# Altium footprint library Connector_PinSocket_1.00mm.PcbLib: 156 footprints (part 4 of 10)
Each footprint in its own frame and in the unit in brackets; x right, y up, seen from the top. Pads: shape width x height; smd on the part's side, far side on the other; paste and mask are expansions set on the pad; w line width, h text height; cw(c..) or ccw(c..) is an arc to the next point about the centre after c.
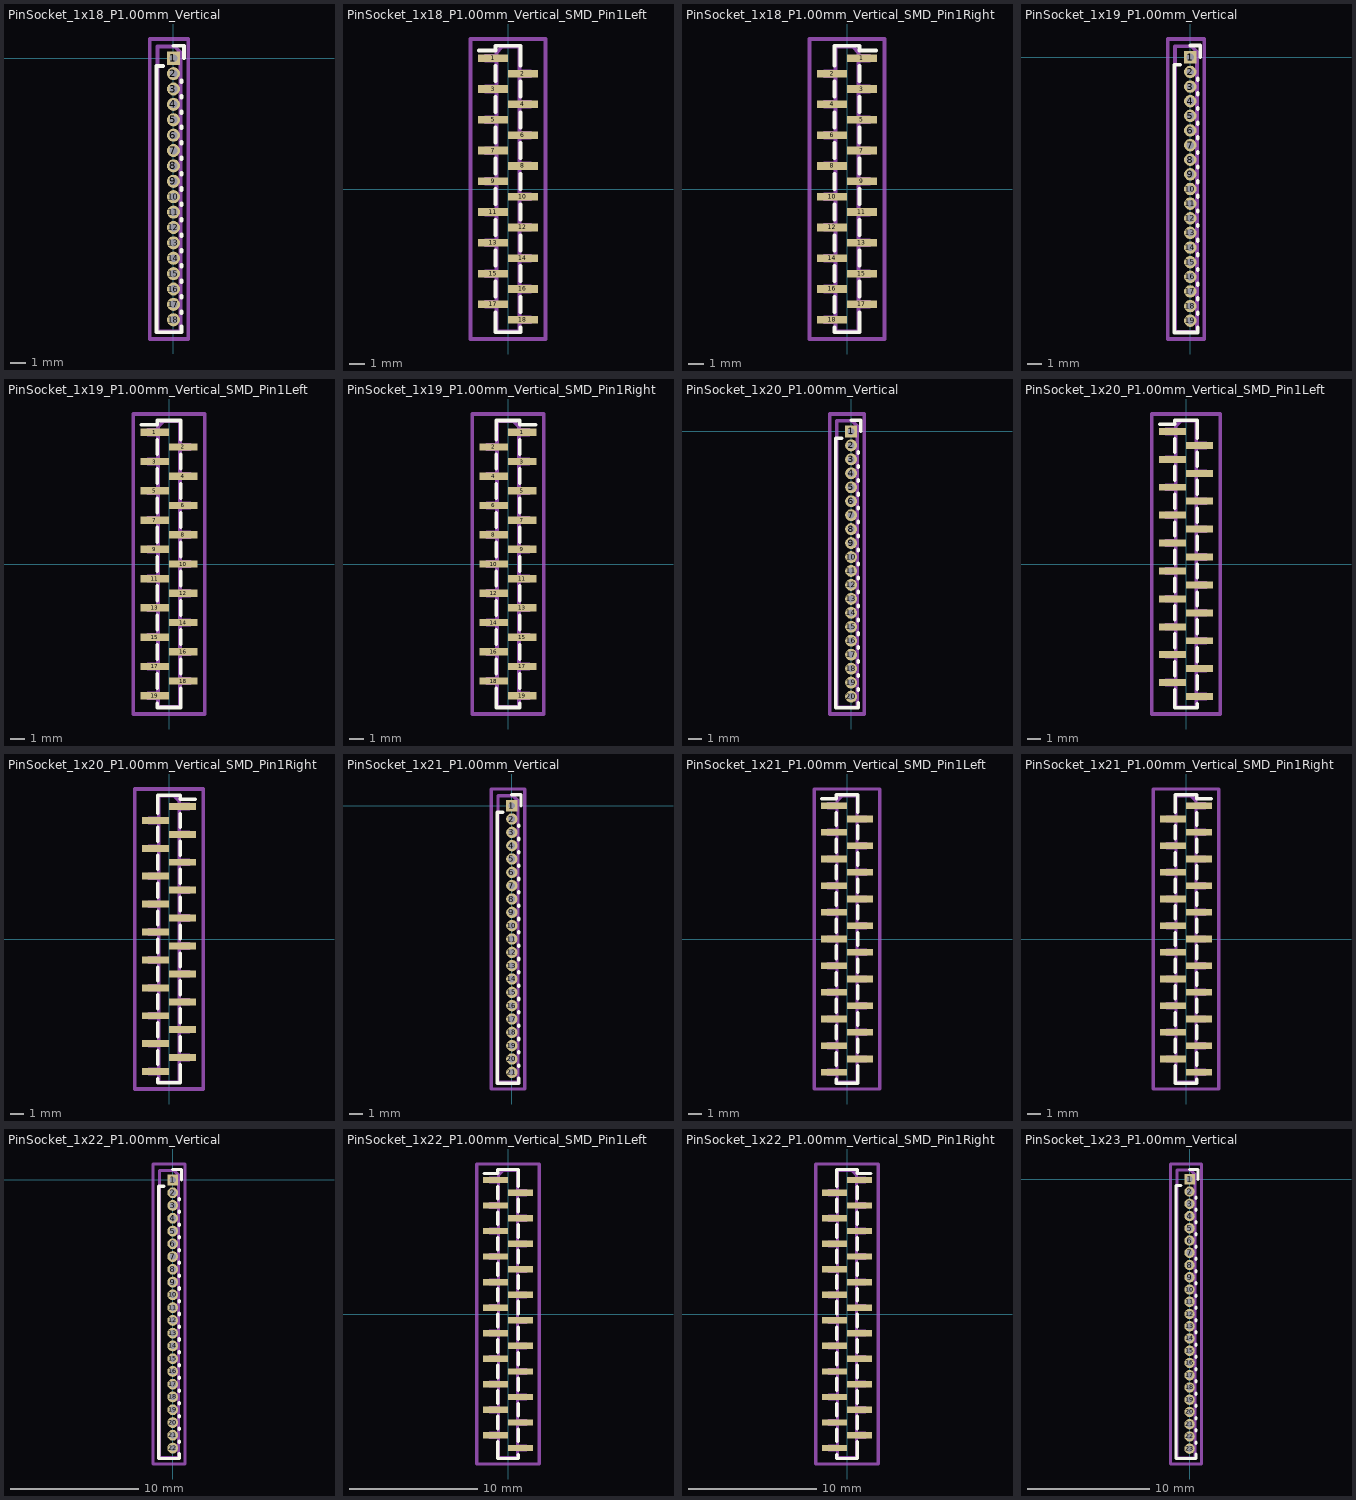
[diagram p3: the footprints below, top view; thin cyan lines are the x and y axes]

## PinSocket_1x18_P1.00mm_Vertical [mm]
pads (18):
  rect 0.85x0.85 hole 0.5: 1(0,0)
  round 0.85 hole 0.5: 2(0,-1) 3(0,-2) 4(0,-3) 5(0,-4) 6(0,-5) 7(0,-6) 8(0,-7) 9(0,-8) 10(0,-9) 11(0,-10) 12(0,-11) 13(0,-12) 14(0,-13) 15(0,-14) 16(0,-15) 17(0,-16) 18(0,-17)
F.SilkS:
  lines w0.254: -0.685,-0.5 -1.1,-0.5 -1.1,-17.81 0.52,-17.81 0.52,-17.446 ; 0,0.81 0.685,0.81 0.685,0 ; 0.52,-16.554 0.52,-16.446 ; 0.52,-15.554 0.52,-15.446 ; 0.52,-14.554 0.52,-14.446 ; 0.52,-13.554 0.52,-13.446 ; 0.52,-12.554 0.52,-12.446 ; 0.52,-11.554 0.52,-11.446 ; 0.52,-10.554 0.52,-10.446 ; 0.52,-9.554 0.52,-9.446 ; 0.52,-8.554 0.52,-8.446 ; 0.52,-7.554 0.52,-7.446 ; 0.52,-6.554 0.52,-6.446 ; 0.52,-5.554 0.52,-5.446 ; 0.52,-4.554 0.52,-4.446 ; 0.52,-3.554 0.52,-3.446 ; 0.52,-2.554 0.52,-2.446 ; 0.52,-1.554 0.52,-1.446
Top Assembly:
  lines w0.254: -1.04,-17.75 0.46,-17.75 0.46,0.375 0.085,0.75 -1.04,0.75 -1.04,-17.75
  text "'.Designator'" at 0.471,-12.147 h0.9
Top Courtyard:
  lines w0.254: -1.54,-18.25 0.96,-18.25 0.96,1.25 -1.54,1.25 -1.54,-18.25
Top Designator:
  text ".Designator" at -7.908,-9.008 h1.52

## PinSocket_1x18_P1.00mm_Vertical_SMD_Pin1Left [mm]
pads (18):
  rect 1.95x0.5 smd: 1(-0.975,8.5) 2(0.975,7.5) 3(-0.975,6.5) 4(0.975,5.5) 5(-0.975,4.5) 6(0.975,3.5) 7(-0.975,2.5) 8(0.975,1.5) 9(-0.975,0.5) 10(0.975,-0.5) 11(-0.975,-1.5) 12(0.975,-2.5) 13(-0.975,-3.5) 14(0.975,-4.5) 15(-0.975,-5.5) 16(0.975,-6.5) 17(-0.975,-7.5) 18(0.975,-8.5)
F.SilkS:
  lines w0.254: -1.89,9.01 -0.81,9.01 -0.81,9.31 0.81,9.31 0.81,8.01 ; -0.81,-8.01 -0.81,-9.31 0.81,-9.31 0.81,-9.01 ; -0.81,-6.99 -0.81,-6.01 ; -0.81,-4.99 -0.81,-4.01 ; -0.81,-2.99 -0.81,-2.01 ; -0.81,-0.99 -0.81,-0.01 ; -0.81,1.01 -0.81,1.99 ; -0.81,3.01 -0.81,3.99 ; -0.81,5.01 -0.81,5.99 ; -0.81,7.01 -0.81,7.99 ; 0.81,-7.99 0.81,-7.01 ; 0.81,-5.99 0.81,-5.01 ; 0.81,-3.99 0.81,-3.01 ; 0.81,-1.99 0.81,-1.01 ; 0.81,0.01 0.81,0.99 ; 0.81,2.01 0.81,2.99 ; 0.81,4.01 0.81,4.99 ; 0.81,6.01 0.81,6.99
Top Assembly:
  lines w0.254: -0.75,-7.65 -1.45,-7.65 -1.45,-7.35 -0.75,-7.35 ; -0.75,-5.65 -1.45,-5.65 -1.45,-5.35 -0.75,-5.35 ; -0.75,-3.65 -1.45,-3.65 -1.45,-3.35 -0.75,-3.35 ; -0.75,-1.65 -1.45,-1.65 -1.45,-1.35 -0.75,-1.35 ; -0.75,0.35 -1.45,0.35 -1.45,0.65 -0.75,0.65 ; -0.75,2.35 -1.45,2.35 -1.45,2.65 -0.75,2.65 ; -0.75,4.35 -1.45,4.35 -1.45,4.65 -0.75,4.65 ; -0.75,6.35 -1.45,6.35 -1.45,6.65 -0.75,6.65 ; -0.75,8.35 -1.45,8.35 -1.45,8.65 -0.75,8.65 ; 0.75,-8.65 1.45,-8.65 1.45,-8.35 0.75,-8.35 ; 0.75,-6.65 1.45,-6.65 1.45,-6.35 0.75,-6.35 ; 0.75,-4.65 1.45,-4.65 1.45,-4.35 0.75,-4.35 ; 0.75,-2.65 1.45,-2.65 1.45,-2.35 0.75,-2.35 ; 0.75,-0.65 1.45,-0.65 1.45,-0.35 0.75,-0.35 ; 0.75,1.35 1.45,1.35 1.45,1.65 0.75,1.65 ; 0.75,3.35 1.45,3.35 1.45,3.65 0.75,3.65 ; 0.75,5.35 1.45,5.35 1.45,5.65 0.75,5.65 ; 0.75,7.35 1.45,7.35 1.45,7.65 0.75,7.65 ; -0.75,-9.25 0.75,-9.25 0.75,9.25 -0.375,9.25 -0.75,8.875 -0.75,-9.25
  text "'.Designator'" at 0.761,-3.647 h0.9
Top Courtyard:
  lines w0.254: -2.45,-9.75 2.45,-9.75 2.45,9.75 -2.45,9.75 -2.45,-9.75
Top Designator:
  text ".Designator" at -7.618,-0.508 h1.52

## PinSocket_1x18_P1.00mm_Vertical_SMD_Pin1Right [mm]
pads (18):
  rect 1.95x0.5 smd: 1(0.975,8.5) 2(-0.975,7.5) 3(0.975,6.5) 4(-0.975,5.5) 5(0.975,4.5) 6(-0.975,3.5) 7(0.975,2.5) 8(-0.975,1.5) 9(0.975,0.5) 10(-0.975,-0.5) 11(0.975,-1.5) 12(-0.975,-2.5) 13(0.975,-3.5) 14(-0.975,-4.5) 15(0.975,-5.5) 16(-0.975,-6.5) 17(0.975,-7.5) 18(-0.975,-8.5)
F.SilkS:
  lines w0.254: -0.81,-9.01 -0.81,-9.31 0.81,-9.31 0.81,-8.01 ; -0.81,-7.99 -0.81,-7.01 ; -0.81,-5.99 -0.81,-5.01 ; -0.81,-3.99 -0.81,-3.01 ; -0.81,-1.99 -0.81,-1.01 ; -0.81,0.01 -0.81,0.99 ; -0.81,2.01 -0.81,2.99 ; -0.81,4.01 -0.81,4.99 ; -0.81,6.01 -0.81,6.99 ; -0.81,8.01 -0.81,9.31 0.81,9.31 0.81,9.01 1.89,9.01 ; 0.81,-6.99 0.81,-6.01 ; 0.81,-4.99 0.81,-4.01 ; 0.81,-2.99 0.81,-2.01 ; 0.81,-0.99 0.81,-0.01 ; 0.81,1.01 0.81,1.99 ; 0.81,3.01 0.81,3.99 ; 0.81,5.01 0.81,5.99 ; 0.81,7.01 0.81,7.99
Top Assembly:
  lines w0.254: -0.75,-8.65 -1.45,-8.65 -1.45,-8.35 -0.75,-8.35 ; -0.75,-6.65 -1.45,-6.65 -1.45,-6.35 -0.75,-6.35 ; -0.75,-4.65 -1.45,-4.65 -1.45,-4.35 -0.75,-4.35 ; -0.75,-2.65 -1.45,-2.65 -1.45,-2.35 -0.75,-2.35 ; -0.75,-0.65 -1.45,-0.65 -1.45,-0.35 -0.75,-0.35 ; -0.75,1.35 -1.45,1.35 -1.45,1.65 -0.75,1.65 ; -0.75,3.35 -1.45,3.35 -1.45,3.65 -0.75,3.65 ; -0.75,5.35 -1.45,5.35 -1.45,5.65 -0.75,5.65 ; -0.75,7.35 -1.45,7.35 -1.45,7.65 -0.75,7.65 ; 0.75,-7.65 1.45,-7.65 1.45,-7.35 0.75,-7.35 ; 0.75,-5.65 1.45,-5.65 1.45,-5.35 0.75,-5.35 ; 0.75,-3.65 1.45,-3.65 1.45,-3.35 0.75,-3.35 ; 0.75,-1.65 1.45,-1.65 1.45,-1.35 0.75,-1.35 ; 0.75,0.35 1.45,0.35 1.45,0.65 0.75,0.65 ; 0.75,2.35 1.45,2.35 1.45,2.65 0.75,2.65 ; 0.75,4.35 1.45,4.35 1.45,4.65 0.75,4.65 ; 0.75,6.35 1.45,6.35 1.45,6.65 0.75,6.65 ; 0.75,8.35 1.45,8.35 1.45,8.65 0.75,8.65 ; -0.75,-9.25 0.75,-9.25 0.75,8.875 0.375,9.25 -0.75,9.25 -0.75,-9.25
  text "'.Designator'" at 0.761,-3.647 h0.9
Top Courtyard:
  lines w0.254: -2.45,-9.75 2.45,-9.75 2.45,9.75 -2.45,9.75 -2.45,-9.75
Top Designator:
  text ".Designator" at -7.618,-0.508 h1.52

## PinSocket_1x19_P1.00mm_Vertical [mm]
pads (19):
  rect 0.85x0.85 hole 0.5: 1(0,0)
  round 0.85 hole 0.5: 2(0,-1) 3(0,-2) 4(0,-3) 5(0,-4) 6(0,-5) 7(0,-6) 8(0,-7) 9(0,-8) 10(0,-9) 11(0,-10) 12(0,-11) 13(0,-12) 14(0,-13) 15(0,-14) 16(0,-15) 17(0,-16) 18(0,-17) 19(0,-18)
F.SilkS:
  lines w0.254: -0.685,-0.5 -1.1,-0.5 -1.1,-18.81 0.52,-18.81 0.52,-18.446 ; 0,0.81 0.685,0.81 0.685,0 ; 0.52,-17.554 0.52,-17.446 ; 0.52,-16.554 0.52,-16.446 ; 0.52,-15.554 0.52,-15.446 ; 0.52,-14.554 0.52,-14.446 ; 0.52,-13.554 0.52,-13.446 ; 0.52,-12.554 0.52,-12.446 ; 0.52,-11.554 0.52,-11.446 ; 0.52,-10.554 0.52,-10.446 ; 0.52,-9.554 0.52,-9.446 ; 0.52,-8.554 0.52,-8.446 ; 0.52,-7.554 0.52,-7.446 ; 0.52,-6.554 0.52,-6.446 ; 0.52,-5.554 0.52,-5.446 ; 0.52,-4.554 0.52,-4.446 ; 0.52,-3.554 0.52,-3.446 ; 0.52,-2.554 0.52,-2.446 ; 0.52,-1.554 0.52,-1.446
Top Assembly:
  lines w0.254: -1.04,-18.75 0.46,-18.75 0.46,0.375 0.085,0.75 -1.04,0.75 -1.04,-18.75
  text "'.Designator'" at 0.471,-12.647 h0.9
Top Courtyard:
  lines w0.254: -1.54,-19.25 0.96,-19.25 0.96,1.25 -1.54,1.25 -1.54,-19.25
Top Designator:
  text ".Designator" at -7.908,-9.508 h1.52

## PinSocket_1x19_P1.00mm_Vertical_SMD_Pin1Left [mm]
pads (19):
  rect 1.95x0.5 smd: 1(-0.975,9) 2(0.975,8) 3(-0.975,7) 4(0.975,6) 5(-0.975,5) 6(0.975,4) 7(-0.975,3) 8(0.975,2) 9(-0.975,1) 10(0.975,0) 11(-0.975,-1) 12(0.975,-2) 13(-0.975,-3) 14(0.975,-4) 15(-0.975,-5) 16(0.975,-6) 17(-0.975,-7) 18(0.975,-8) 19(-0.975,-9)
F.SilkS:
  lines w0.254: -1.89,9.51 -0.81,9.51 -0.81,9.81 0.81,9.81 0.81,8.51 ; -0.81,-9.51 -0.81,-9.81 0.81,-9.81 0.81,-8.51 ; -0.81,-8.49 -0.81,-7.51 ; -0.81,-6.49 -0.81,-5.51 ; -0.81,-4.49 -0.81,-3.51 ; -0.81,-2.49 -0.81,-1.51 ; -0.81,-0.49 -0.81,0.49 ; -0.81,1.51 -0.81,2.49 ; -0.81,3.51 -0.81,4.49 ; -0.81,5.51 -0.81,6.49 ; -0.81,7.51 -0.81,8.49 ; 0.81,-7.49 0.81,-6.51 ; 0.81,-5.49 0.81,-4.51 ; 0.81,-3.49 0.81,-2.51 ; 0.81,-1.49 0.81,-0.51 ; 0.81,0.51 0.81,1.49 ; 0.81,2.51 0.81,3.49 ; 0.81,4.51 0.81,5.49 ; 0.81,6.51 0.81,7.49
Top Assembly:
  lines w0.254: -0.75,-9.15 -1.45,-9.15 -1.45,-8.85 -0.75,-8.85 ; -0.75,-7.15 -1.45,-7.15 -1.45,-6.85 -0.75,-6.85 ; -0.75,-5.15 -1.45,-5.15 -1.45,-4.85 -0.75,-4.85 ; -0.75,-3.15 -1.45,-3.15 -1.45,-2.85 -0.75,-2.85 ; -0.75,-1.15 -1.45,-1.15 -1.45,-0.85 -0.75,-0.85 ; -0.75,0.85 -1.45,0.85 -1.45,1.15 -0.75,1.15 ; -0.75,2.85 -1.45,2.85 -1.45,3.15 -0.75,3.15 ; -0.75,4.85 -1.45,4.85 -1.45,5.15 -0.75,5.15 ; -0.75,6.85 -1.45,6.85 -1.45,7.15 -0.75,7.15 ; -0.75,8.85 -1.45,8.85 -1.45,9.15 -0.75,9.15 ; 0.75,-8.15 1.45,-8.15 1.45,-7.85 0.75,-7.85 ; 0.75,-6.15 1.45,-6.15 1.45,-5.85 0.75,-5.85 ; 0.75,-4.15 1.45,-4.15 1.45,-3.85 0.75,-3.85 ; 0.75,-2.15 1.45,-2.15 1.45,-1.85 0.75,-1.85 ; 0.75,-0.15 1.45,-0.15 1.45,0.15 0.75,0.15 ; 0.75,1.85 1.45,1.85 1.45,2.15 0.75,2.15 ; 0.75,3.85 1.45,3.85 1.45,4.15 0.75,4.15 ; 0.75,5.85 1.45,5.85 1.45,6.15 0.75,6.15 ; 0.75,7.85 1.45,7.85 1.45,8.15 0.75,8.15 ; -0.75,-9.75 0.75,-9.75 0.75,9.75 -0.375,9.75 -0.75,9.375 -0.75,-9.75
  text "'.Designator'" at 0.761,-3.647 h0.9
Top Courtyard:
  lines w0.254: -2.45,-10.25 2.45,-10.25 2.45,10.25 -2.45,10.25 -2.45,-10.25
Top Designator:
  text ".Designator" at -7.618,-0.508 h1.52

## PinSocket_1x19_P1.00mm_Vertical_SMD_Pin1Right [mm]
pads (19):
  rect 1.95x0.5 smd: 1(0.975,9) 2(-0.975,8) 3(0.975,7) 4(-0.975,6) 5(0.975,5) 6(-0.975,4) 7(0.975,3) 8(-0.975,2) 9(0.975,1) 10(-0.975,0) 11(0.975,-1) 12(-0.975,-2) 13(0.975,-3) 14(-0.975,-4) 15(0.975,-5) 16(-0.975,-6) 17(0.975,-7) 18(-0.975,-8) 19(0.975,-9)
F.SilkS:
  lines w0.254: -0.81,-8.51 -0.81,-9.81 0.81,-9.81 0.81,-9.51 ; -0.81,-7.49 -0.81,-6.51 ; -0.81,-5.49 -0.81,-4.51 ; -0.81,-3.49 -0.81,-2.51 ; -0.81,-1.49 -0.81,-0.51 ; -0.81,0.51 -0.81,1.49 ; -0.81,2.51 -0.81,3.49 ; -0.81,4.51 -0.81,5.49 ; -0.81,6.51 -0.81,7.49 ; -0.81,8.51 -0.81,9.81 0.81,9.81 0.81,9.51 1.89,9.51 ; 0.81,-8.49 0.81,-7.51 ; 0.81,-6.49 0.81,-5.51 ; 0.81,-4.49 0.81,-3.51 ; 0.81,-2.49 0.81,-1.51 ; 0.81,-0.49 0.81,0.49 ; 0.81,1.51 0.81,2.49 ; 0.81,3.51 0.81,4.49 ; 0.81,5.51 0.81,6.49 ; 0.81,7.51 0.81,8.49
Top Assembly:
  lines w0.254: -0.75,-8.15 -1.45,-8.15 -1.45,-7.85 -0.75,-7.85 ; -0.75,-6.15 -1.45,-6.15 -1.45,-5.85 -0.75,-5.85 ; -0.75,-4.15 -1.45,-4.15 -1.45,-3.85 -0.75,-3.85 ; -0.75,-2.15 -1.45,-2.15 -1.45,-1.85 -0.75,-1.85 ; -0.75,-0.15 -1.45,-0.15 -1.45,0.15 -0.75,0.15 ; -0.75,1.85 -1.45,1.85 -1.45,2.15 -0.75,2.15 ; -0.75,3.85 -1.45,3.85 -1.45,4.15 -0.75,4.15 ; -0.75,5.85 -1.45,5.85 -1.45,6.15 -0.75,6.15 ; -0.75,7.85 -1.45,7.85 -1.45,8.15 -0.75,8.15 ; 0.75,-9.15 1.45,-9.15 1.45,-8.85 0.75,-8.85 ; 0.75,-7.15 1.45,-7.15 1.45,-6.85 0.75,-6.85 ; 0.75,-5.15 1.45,-5.15 1.45,-4.85 0.75,-4.85 ; 0.75,-3.15 1.45,-3.15 1.45,-2.85 0.75,-2.85 ; 0.75,-1.15 1.45,-1.15 1.45,-0.85 0.75,-0.85 ; 0.75,0.85 1.45,0.85 1.45,1.15 0.75,1.15 ; 0.75,2.85 1.45,2.85 1.45,3.15 0.75,3.15 ; 0.75,4.85 1.45,4.85 1.45,5.15 0.75,5.15 ; 0.75,6.85 1.45,6.85 1.45,7.15 0.75,7.15 ; 0.75,8.85 1.45,8.85 1.45,9.15 0.75,9.15 ; -0.75,-9.75 0.75,-9.75 0.75,9.375 0.375,9.75 -0.75,9.75 -0.75,-9.75
  text "'.Designator'" at 0.761,-3.647 h0.9
Top Courtyard:
  lines w0.254: -2.45,-10.25 2.45,-10.25 2.45,10.25 -2.45,10.25 -2.45,-10.25
Top Designator:
  text ".Designator" at -7.618,-0.508 h1.52

## PinSocket_1x20_P1.00mm_Vertical [mm]
pads (20):
  rect 0.85x0.85 hole 0.5: 1(0,0)
  round 0.85 hole 0.5: 2(0,-1) 3(0,-2) 4(0,-3) 5(0,-4) 6(0,-5) 7(0,-6) 8(0,-7) 9(0,-8) 10(0,-9) 11(0,-10) 12(0,-11) 13(0,-12) 14(0,-13) 15(0,-14) 16(0,-15) 17(0,-16) 18(0,-17) 19(0,-18) 20(0,-19)
F.SilkS:
  lines w0.254: -0.685,-0.5 -1.1,-0.5 -1.1,-19.81 0.52,-19.81 0.52,-19.446 ; 0,0.81 0.685,0.81 0.685,0 ; 0.52,-18.554 0.52,-18.446 ; 0.52,-17.554 0.52,-17.446 ; 0.52,-16.554 0.52,-16.446 ; 0.52,-15.554 0.52,-15.446 ; 0.52,-14.554 0.52,-14.446 ; 0.52,-13.554 0.52,-13.446 ; 0.52,-12.554 0.52,-12.446 ; 0.52,-11.554 0.52,-11.446 ; 0.52,-10.554 0.52,-10.446 ; 0.52,-9.554 0.52,-9.446 ; 0.52,-8.554 0.52,-8.446 ; 0.52,-7.554 0.52,-7.446 ; 0.52,-6.554 0.52,-6.446 ; 0.52,-5.554 0.52,-5.446 ; 0.52,-4.554 0.52,-4.446 ; 0.52,-3.554 0.52,-3.446 ; 0.52,-2.554 0.52,-2.446 ; 0.52,-1.554 0.52,-1.446
Top Assembly:
  lines w0.254: -1.04,-19.75 0.46,-19.75 0.46,0.375 0.085,0.75 -1.04,0.75 -1.04,-19.75
  text "'.Designator'" at 0.471,-13.147 h0.9
Top Courtyard:
  lines w0.254: -1.54,-20.25 0.96,-20.25 0.96,1.25 -1.54,1.25 -1.54,-20.25
Top Designator:
  text ".Designator" at -7.908,-10.008 h1.52

## PinSocket_1x20_P1.00mm_Vertical_SMD_Pin1Left [mm]
pads (20):
  rect 1.95x0.5 smd: 1(-0.975,9.5) 2(0.975,8.5) 3(-0.975,7.5) 4(0.975,6.5) 5(-0.975,5.5) 6(0.975,4.5) 7(-0.975,3.5) 8(0.975,2.5) 9(-0.975,1.5) 10(0.975,0.5) 11(-0.975,-0.5) 12(0.975,-1.5) 13(-0.975,-2.5) 14(0.975,-3.5) 15(-0.975,-4.5) 16(0.975,-5.5) 17(-0.975,-6.5) 18(0.975,-7.5) 19(-0.975,-8.5) 20(0.975,-9.5)
F.SilkS:
  lines w0.254: -1.89,10.01 -0.81,10.01 -0.81,10.31 0.81,10.31 0.81,9.01 ; -0.81,-9.01 -0.81,-10.31 0.81,-10.31 0.81,-10.01 ; -0.81,-7.99 -0.81,-7.01 ; -0.81,-5.99 -0.81,-5.01 ; -0.81,-3.99 -0.81,-3.01 ; -0.81,-1.99 -0.81,-1.01 ; -0.81,0.01 -0.81,0.99 ; -0.81,2.01 -0.81,2.99 ; -0.81,4.01 -0.81,4.99 ; -0.81,6.01 -0.81,6.99 ; -0.81,8.01 -0.81,8.99 ; 0.81,-8.99 0.81,-8.01 ; 0.81,-6.99 0.81,-6.01 ; 0.81,-4.99 0.81,-4.01 ; 0.81,-2.99 0.81,-2.01 ; 0.81,-0.99 0.81,-0.01 ; 0.81,1.01 0.81,1.99 ; 0.81,3.01 0.81,3.99 ; 0.81,5.01 0.81,5.99 ; 0.81,7.01 0.81,7.99
Top Assembly:
  lines w0.254: -0.75,-8.65 -1.45,-8.65 -1.45,-8.35 -0.75,-8.35 ; -0.75,-6.65 -1.45,-6.65 -1.45,-6.35 -0.75,-6.35 ; -0.75,-4.65 -1.45,-4.65 -1.45,-4.35 -0.75,-4.35 ; -0.75,-2.65 -1.45,-2.65 -1.45,-2.35 -0.75,-2.35 ; -0.75,-0.65 -1.45,-0.65 -1.45,-0.35 -0.75,-0.35 ; -0.75,1.35 -1.45,1.35 -1.45,1.65 -0.75,1.65 ; -0.75,3.35 -1.45,3.35 -1.45,3.65 -0.75,3.65 ; -0.75,5.35 -1.45,5.35 -1.45,5.65 -0.75,5.65 ; -0.75,7.35 -1.45,7.35 -1.45,7.65 -0.75,7.65 ; -0.75,9.35 -1.45,9.35 -1.45,9.65 -0.75,9.65 ; 0.75,-9.65 1.45,-9.65 1.45,-9.35 0.75,-9.35 ; 0.75,-7.65 1.45,-7.65 1.45,-7.35 0.75,-7.35 ; 0.75,-5.65 1.45,-5.65 1.45,-5.35 0.75,-5.35 ; 0.75,-3.65 1.45,-3.65 1.45,-3.35 0.75,-3.35 ; 0.75,-1.65 1.45,-1.65 1.45,-1.35 0.75,-1.35 ; 0.75,0.35 1.45,0.35 1.45,0.65 0.75,0.65 ; 0.75,2.35 1.45,2.35 1.45,2.65 0.75,2.65 ; 0.75,4.35 1.45,4.35 1.45,4.65 0.75,4.65 ; 0.75,6.35 1.45,6.35 1.45,6.65 0.75,6.65 ; 0.75,8.35 1.45,8.35 1.45,8.65 0.75,8.65 ; -0.75,-10.25 0.75,-10.25 0.75,10.25 -0.375,10.25 -0.75,9.875 -0.75,-10.25
  text "'.Designator'" at 0.761,-3.647 h0.9
Top Courtyard:
  lines w0.254: -2.45,-10.75 2.45,-10.75 2.45,10.75 -2.45,10.75 -2.45,-10.75
Top Designator:
  text ".Designator" at -7.618,-0.508 h1.52

## PinSocket_1x20_P1.00mm_Vertical_SMD_Pin1Right [mm]
pads (20):
  rect 1.95x0.5 smd: 1(0.975,9.5) 2(-0.975,8.5) 3(0.975,7.5) 4(-0.975,6.5) 5(0.975,5.5) 6(-0.975,4.5) 7(0.975,3.5) 8(-0.975,2.5) 9(0.975,1.5) 10(-0.975,0.5) 11(0.975,-0.5) 12(-0.975,-1.5) 13(0.975,-2.5) 14(-0.975,-3.5) 15(0.975,-4.5) 16(-0.975,-5.5) 17(0.975,-6.5) 18(-0.975,-7.5) 19(0.975,-8.5) 20(-0.975,-9.5)
F.SilkS:
  lines w0.254: -0.81,-10.01 -0.81,-10.31 0.81,-10.31 0.81,-9.01 ; -0.81,-8.99 -0.81,-8.01 ; -0.81,-6.99 -0.81,-6.01 ; -0.81,-4.99 -0.81,-4.01 ; -0.81,-2.99 -0.81,-2.01 ; -0.81,-0.99 -0.81,-0.01 ; -0.81,1.01 -0.81,1.99 ; -0.81,3.01 -0.81,3.99 ; -0.81,5.01 -0.81,5.99 ; -0.81,7.01 -0.81,7.99 ; -0.81,9.01 -0.81,10.31 0.81,10.31 0.81,10.01 1.89,10.01 ; 0.81,-7.99 0.81,-7.01 ; 0.81,-5.99 0.81,-5.01 ; 0.81,-3.99 0.81,-3.01 ; 0.81,-1.99 0.81,-1.01 ; 0.81,0.01 0.81,0.99 ; 0.81,2.01 0.81,2.99 ; 0.81,4.01 0.81,4.99 ; 0.81,6.01 0.81,6.99 ; 0.81,8.01 0.81,8.99
Top Assembly:
  lines w0.254: -0.75,-9.65 -1.45,-9.65 -1.45,-9.35 -0.75,-9.35 ; -0.75,-7.65 -1.45,-7.65 -1.45,-7.35 -0.75,-7.35 ; -0.75,-5.65 -1.45,-5.65 -1.45,-5.35 -0.75,-5.35 ; -0.75,-3.65 -1.45,-3.65 -1.45,-3.35 -0.75,-3.35 ; -0.75,-1.65 -1.45,-1.65 -1.45,-1.35 -0.75,-1.35 ; -0.75,0.35 -1.45,0.35 -1.45,0.65 -0.75,0.65 ; -0.75,2.35 -1.45,2.35 -1.45,2.65 -0.75,2.65 ; -0.75,4.35 -1.45,4.35 -1.45,4.65 -0.75,4.65 ; -0.75,6.35 -1.45,6.35 -1.45,6.65 -0.75,6.65 ; -0.75,8.35 -1.45,8.35 -1.45,8.65 -0.75,8.65 ; 0.75,-8.65 1.45,-8.65 1.45,-8.35 0.75,-8.35 ; 0.75,-6.65 1.45,-6.65 1.45,-6.35 0.75,-6.35 ; 0.75,-4.65 1.45,-4.65 1.45,-4.35 0.75,-4.35 ; 0.75,-2.65 1.45,-2.65 1.45,-2.35 0.75,-2.35 ; 0.75,-0.65 1.45,-0.65 1.45,-0.35 0.75,-0.35 ; 0.75,1.35 1.45,1.35 1.45,1.65 0.75,1.65 ; 0.75,3.35 1.45,3.35 1.45,3.65 0.75,3.65 ; 0.75,5.35 1.45,5.35 1.45,5.65 0.75,5.65 ; 0.75,7.35 1.45,7.35 1.45,7.65 0.75,7.65 ; 0.75,9.35 1.45,9.35 1.45,9.65 0.75,9.65 ; -0.75,-10.25 0.75,-10.25 0.75,9.875 0.375,10.25 -0.75,10.25 -0.75,-10.25
  text "'.Designator'" at 0.761,-3.647 h0.9
Top Courtyard:
  lines w0.254: -2.45,-10.75 2.45,-10.75 2.45,10.75 -2.45,10.75 -2.45,-10.75
Top Designator:
  text ".Designator" at -7.618,-0.508 h1.52

## PinSocket_1x21_P1.00mm_Vertical [mm]
pads (21):
  rect 0.85x0.85 hole 0.5: 1(0,0)
  round 0.85 hole 0.5: 2(0,-1) 3(0,-2) 4(0,-3) 5(0,-4) 6(0,-5) 7(0,-6) 8(0,-7) 9(0,-8) 10(0,-9) 11(0,-10) 12(0,-11) 13(0,-12) 14(0,-13) 15(0,-14) 16(0,-15) 17(0,-16) 18(0,-17) 19(0,-18) 20(0,-19) 21(0,-20)
F.SilkS:
  lines w0.254: -0.685,-0.5 -1.1,-0.5 -1.1,-20.81 0.52,-20.81 0.52,-20.446 ; 0,0.81 0.685,0.81 0.685,0 ; 0.52,-19.554 0.52,-19.446 ; 0.52,-18.554 0.52,-18.446 ; 0.52,-17.554 0.52,-17.446 ; 0.52,-16.554 0.52,-16.446 ; 0.52,-15.554 0.52,-15.446 ; 0.52,-14.554 0.52,-14.446 ; 0.52,-13.554 0.52,-13.446 ; 0.52,-12.554 0.52,-12.446 ; 0.52,-11.554 0.52,-11.446 ; 0.52,-10.554 0.52,-10.446 ; 0.52,-9.554 0.52,-9.446 ; 0.52,-8.554 0.52,-8.446 ; 0.52,-7.554 0.52,-7.446 ; 0.52,-6.554 0.52,-6.446 ; 0.52,-5.554 0.52,-5.446 ; 0.52,-4.554 0.52,-4.446 ; 0.52,-3.554 0.52,-3.446 ; 0.52,-2.554 0.52,-2.446 ; 0.52,-1.554 0.52,-1.446
Top Assembly:
  lines w0.254: -1.04,-20.75 0.46,-20.75 0.46,0.375 0.085,0.75 -1.04,0.75 -1.04,-20.75
  text "'.Designator'" at 0.471,-13.647 h0.9
Top Courtyard:
  lines w0.254: -1.54,-21.25 0.96,-21.25 0.96,1.25 -1.54,1.25 -1.54,-21.25
Top Designator:
  text ".Designator" at -7.908,-10.508 h1.52

## PinSocket_1x21_P1.00mm_Vertical_SMD_Pin1Left [mm]
pads (21):
  rect 1.95x0.5 smd: 1(-0.975,10) 2(0.975,9) 3(-0.975,8) 4(0.975,7) 5(-0.975,6) 6(0.975,5) 7(-0.975,4) 8(0.975,3) 9(-0.975,2) 10(0.975,1) 11(-0.975,0) 12(0.975,-1) 13(-0.975,-2) 14(0.975,-3) 15(-0.975,-4) 16(0.975,-5) 17(-0.975,-6) 18(0.975,-7) 19(-0.975,-8) 20(0.975,-9) 21(-0.975,-10)
F.SilkS:
  lines w0.254: -1.89,10.51 -0.81,10.51 -0.81,10.81 0.81,10.81 0.81,9.51 ; -0.81,-10.51 -0.81,-10.81 0.81,-10.81 0.81,-9.51 ; -0.81,-9.49 -0.81,-8.51 ; -0.81,-7.49 -0.81,-6.51 ; -0.81,-5.49 -0.81,-4.51 ; -0.81,-3.49 -0.81,-2.51 ; -0.81,-1.49 -0.81,-0.51 ; -0.81,0.51 -0.81,1.49 ; -0.81,2.51 -0.81,3.49 ; -0.81,4.51 -0.81,5.49 ; -0.81,6.51 -0.81,7.49 ; -0.81,8.51 -0.81,9.49 ; 0.81,-8.49 0.81,-7.51 ; 0.81,-6.49 0.81,-5.51 ; 0.81,-4.49 0.81,-3.51 ; 0.81,-2.49 0.81,-1.51 ; 0.81,-0.49 0.81,0.49 ; 0.81,1.51 0.81,2.49 ; 0.81,3.51 0.81,4.49 ; 0.81,5.51 0.81,6.49 ; 0.81,7.51 0.81,8.49
Top Assembly:
  lines w0.254: -0.75,-10.15 -1.45,-10.15 -1.45,-9.85 -0.75,-9.85 ; -0.75,-8.15 -1.45,-8.15 -1.45,-7.85 -0.75,-7.85 ; -0.75,-6.15 -1.45,-6.15 -1.45,-5.85 -0.75,-5.85 ; -0.75,-4.15 -1.45,-4.15 -1.45,-3.85 -0.75,-3.85 ; -0.75,-2.15 -1.45,-2.15 -1.45,-1.85 -0.75,-1.85 ; -0.75,-0.15 -1.45,-0.15 -1.45,0.15 -0.75,0.15 ; -0.75,1.85 -1.45,1.85 -1.45,2.15 -0.75,2.15 ; -0.75,3.85 -1.45,3.85 -1.45,4.15 -0.75,4.15 ; -0.75,5.85 -1.45,5.85 -1.45,6.15 -0.75,6.15 ; -0.75,7.85 -1.45,7.85 -1.45,8.15 -0.75,8.15 ; -0.75,9.85 -1.45,9.85 -1.45,10.15 -0.75,10.15 ; 0.75,-9.15 1.45,-9.15 1.45,-8.85 0.75,-8.85 ; 0.75,-7.15 1.45,-7.15 1.45,-6.85 0.75,-6.85 ; 0.75,-5.15 1.45,-5.15 1.45,-4.85 0.75,-4.85 ; 0.75,-3.15 1.45,-3.15 1.45,-2.85 0.75,-2.85 ; 0.75,-1.15 1.45,-1.15 1.45,-0.85 0.75,-0.85 ; 0.75,0.85 1.45,0.85 1.45,1.15 0.75,1.15 ; 0.75,2.85 1.45,2.85 1.45,3.15 0.75,3.15 ; 0.75,4.85 1.45,4.85 1.45,5.15 0.75,5.15 ; 0.75,6.85 1.45,6.85 1.45,7.15 0.75,7.15 ; 0.75,8.85 1.45,8.85 1.45,9.15 0.75,9.15 ; -0.75,-10.75 0.75,-10.75 0.75,10.75 -0.375,10.75 -0.75,10.375 -0.75,-10.75
  text "'.Designator'" at 0.761,-3.647 h0.9
Top Courtyard:
  lines w0.254: -2.45,-11.25 2.45,-11.25 2.45,11.25 -2.45,11.25 -2.45,-11.25
Top Designator:
  text ".Designator" at -7.618,-0.508 h1.52

## PinSocket_1x21_P1.00mm_Vertical_SMD_Pin1Right [mm]
pads (21):
  rect 1.95x0.5 smd: 1(0.975,10) 2(-0.975,9) 3(0.975,8) 4(-0.975,7) 5(0.975,6) 6(-0.975,5) 7(0.975,4) 8(-0.975,3) 9(0.975,2) 10(-0.975,1) 11(0.975,0) 12(-0.975,-1) 13(0.975,-2) 14(-0.975,-3) 15(0.975,-4) 16(-0.975,-5) 17(0.975,-6) 18(-0.975,-7) 19(0.975,-8) 20(-0.975,-9) 21(0.975,-10)
F.SilkS:
  lines w0.254: -0.81,-9.51 -0.81,-10.81 0.81,-10.81 0.81,-10.51 ; -0.81,-8.49 -0.81,-7.51 ; -0.81,-6.49 -0.81,-5.51 ; -0.81,-4.49 -0.81,-3.51 ; -0.81,-2.49 -0.81,-1.51 ; -0.81,-0.49 -0.81,0.49 ; -0.81,1.51 -0.81,2.49 ; -0.81,3.51 -0.81,4.49 ; -0.81,5.51 -0.81,6.49 ; -0.81,7.51 -0.81,8.49 ; -0.81,9.51 -0.81,10.81 0.81,10.81 0.81,10.51 1.89,10.51 ; 0.81,-9.49 0.81,-8.51 ; 0.81,-7.49 0.81,-6.51 ; 0.81,-5.49 0.81,-4.51 ; 0.81,-3.49 0.81,-2.51 ; 0.81,-1.49 0.81,-0.51 ; 0.81,0.51 0.81,1.49 ; 0.81,2.51 0.81,3.49 ; 0.81,4.51 0.81,5.49 ; 0.81,6.51 0.81,7.49 ; 0.81,8.51 0.81,9.49
Top Assembly:
  lines w0.254: -0.75,-9.15 -1.45,-9.15 -1.45,-8.85 -0.75,-8.85 ; -0.75,-7.15 -1.45,-7.15 -1.45,-6.85 -0.75,-6.85 ; -0.75,-5.15 -1.45,-5.15 -1.45,-4.85 -0.75,-4.85 ; -0.75,-3.15 -1.45,-3.15 -1.45,-2.85 -0.75,-2.85 ; -0.75,-1.15 -1.45,-1.15 -1.45,-0.85 -0.75,-0.85 ; -0.75,0.85 -1.45,0.85 -1.45,1.15 -0.75,1.15 ; -0.75,2.85 -1.45,2.85 -1.45,3.15 -0.75,3.15 ; -0.75,4.85 -1.45,4.85 -1.45,5.15 -0.75,5.15 ; -0.75,6.85 -1.45,6.85 -1.45,7.15 -0.75,7.15 ; -0.75,8.85 -1.45,8.85 -1.45,9.15 -0.75,9.15 ; 0.75,-10.15 1.45,-10.15 1.45,-9.85 0.75,-9.85 ; 0.75,-8.15 1.45,-8.15 1.45,-7.85 0.75,-7.85 ; 0.75,-6.15 1.45,-6.15 1.45,-5.85 0.75,-5.85 ; 0.75,-4.15 1.45,-4.15 1.45,-3.85 0.75,-3.85 ; 0.75,-2.15 1.45,-2.15 1.45,-1.85 0.75,-1.85 ; 0.75,-0.15 1.45,-0.15 1.45,0.15 0.75,0.15 ; 0.75,1.85 1.45,1.85 1.45,2.15 0.75,2.15 ; 0.75,3.85 1.45,3.85 1.45,4.15 0.75,4.15 ; 0.75,5.85 1.45,5.85 1.45,6.15 0.75,6.15 ; 0.75,7.85 1.45,7.85 1.45,8.15 0.75,8.15 ; 0.75,9.85 1.45,9.85 1.45,10.15 0.75,10.15 ; -0.75,-10.75 0.75,-10.75 0.75,10.375 0.375,10.75 -0.75,10.75 -0.75,-10.75
  text "'.Designator'" at 0.761,-3.647 h0.9
Top Courtyard:
  lines w0.254: -2.45,-11.25 2.45,-11.25 2.45,11.25 -2.45,11.25 -2.45,-11.25
Top Designator:
  text ".Designator" at -7.618,-0.508 h1.52

## PinSocket_1x22_P1.00mm_Vertical [mm]
pads (22):
  rect 0.85x0.85 hole 0.5: 1(0,0)
  round 0.85 hole 0.5: 2(0,-1) 3(0,-2) 4(0,-3) 5(0,-4) 6(0,-5) 7(0,-6) 8(0,-7) 9(0,-8) 10(0,-9) 11(0,-10) 12(0,-11) 13(0,-12) 14(0,-13) 15(0,-14) 16(0,-15) 17(0,-16) 18(0,-17) 19(0,-18) 20(0,-19) 21(0,-20) 22(0,-21)
F.SilkS:
  lines w0.254: -0.685,-0.5 -1.1,-0.5 -1.1,-21.81 0.52,-21.81 0.52,-21.446 ; 0,0.81 0.685,0.81 0.685,0 ; 0.52,-20.554 0.52,-20.446 ; 0.52,-19.554 0.52,-19.446 ; 0.52,-18.554 0.52,-18.446 ; 0.52,-17.554 0.52,-17.446 ; 0.52,-16.554 0.52,-16.446 ; 0.52,-15.554 0.52,-15.446 ; 0.52,-14.554 0.52,-14.446 ; 0.52,-13.554 0.52,-13.446 ; 0.52,-12.554 0.52,-12.446 ; 0.52,-11.554 0.52,-11.446 ; 0.52,-10.554 0.52,-10.446 ; 0.52,-9.554 0.52,-9.446 ; 0.52,-8.554 0.52,-8.446 ; 0.52,-7.554 0.52,-7.446 ; 0.52,-6.554 0.52,-6.446 ; 0.52,-5.554 0.52,-5.446 ; 0.52,-4.554 0.52,-4.446 ; 0.52,-3.554 0.52,-3.446 ; 0.52,-2.554 0.52,-2.446 ; 0.52,-1.554 0.52,-1.446
Top Assembly:
  lines w0.254: -1.04,-21.75 0.46,-21.75 0.46,0.375 0.085,0.75 -1.04,0.75 -1.04,-21.75
  text "'.Designator'" at 0.471,-14.147 h0.9
Top Courtyard:
  lines w0.254: -1.54,-22.25 0.96,-22.25 0.96,1.25 -1.54,1.25 -1.54,-22.25
Top Designator:
  text ".Designator" at -7.908,-11.008 h1.52

## PinSocket_1x22_P1.00mm_Vertical_SMD_Pin1Left [mm]
pads (22):
  rect 1.95x0.5 smd: 1(-0.975,10.5) 2(0.975,9.5) 3(-0.975,8.5) 4(0.975,7.5) 5(-0.975,6.5) 6(0.975,5.5) 7(-0.975,4.5) 8(0.975,3.5) 9(-0.975,2.5) 10(0.975,1.5) 11(-0.975,0.5) 12(0.975,-0.5) 13(-0.975,-1.5) 14(0.975,-2.5) 15(-0.975,-3.5) 16(0.975,-4.5) 17(-0.975,-5.5) 18(0.975,-6.5) 19(-0.975,-7.5) 20(0.975,-8.5) 21(-0.975,-9.5) 22(0.975,-10.5)
F.SilkS:
  lines w0.254: -1.89,11.01 -0.81,11.01 -0.81,11.31 0.81,11.31 0.81,10.01 ; -0.81,-10.01 -0.81,-11.31 0.81,-11.31 0.81,-11.01 ; -0.81,-8.99 -0.81,-8.01 ; -0.81,-6.99 -0.81,-6.01 ; -0.81,-4.99 -0.81,-4.01 ; -0.81,-2.99 -0.81,-2.01 ; -0.81,-0.99 -0.81,-0.01 ; -0.81,1.01 -0.81,1.99 ; -0.81,3.01 -0.81,3.99 ; -0.81,5.01 -0.81,5.99 ; -0.81,7.01 -0.81,7.99 ; -0.81,9.01 -0.81,9.99 ; 0.81,-9.99 0.81,-9.01 ; 0.81,-7.99 0.81,-7.01 ; 0.81,-5.99 0.81,-5.01 ; 0.81,-3.99 0.81,-3.01 ; 0.81,-1.99 0.81,-1.01 ; 0.81,0.01 0.81,0.99 ; 0.81,2.01 0.81,2.99 ; 0.81,4.01 0.81,4.99 ; 0.81,6.01 0.81,6.99 ; 0.81,8.01 0.81,8.99
Top Assembly:
  lines w0.254: -0.75,-9.65 -1.45,-9.65 -1.45,-9.35 -0.75,-9.35 ; -0.75,-7.65 -1.45,-7.65 -1.45,-7.35 -0.75,-7.35 ; -0.75,-5.65 -1.45,-5.65 -1.45,-5.35 -0.75,-5.35 ; -0.75,-3.65 -1.45,-3.65 -1.45,-3.35 -0.75,-3.35 ; -0.75,-1.65 -1.45,-1.65 -1.45,-1.35 -0.75,-1.35 ; -0.75,0.35 -1.45,0.35 -1.45,0.65 -0.75,0.65 ; -0.75,2.35 -1.45,2.35 -1.45,2.65 -0.75,2.65 ; -0.75,4.35 -1.45,4.35 -1.45,4.65 -0.75,4.65 ; -0.75,6.35 -1.45,6.35 -1.45,6.65 -0.75,6.65 ; -0.75,8.35 -1.45,8.35 -1.45,8.65 -0.75,8.65 ; -0.75,10.35 -1.45,10.35 -1.45,10.65 -0.75,10.65 ; 0.75,-10.65 1.45,-10.65 1.45,-10.35 0.75,-10.35 ; 0.75,-8.65 1.45,-8.65 1.45,-8.35 0.75,-8.35 ; 0.75,-6.65 1.45,-6.65 1.45,-6.35 0.75,-6.35 ; 0.75,-4.65 1.45,-4.65 1.45,-4.35 0.75,-4.35 ; 0.75,-2.65 1.45,-2.65 1.45,-2.35 0.75,-2.35 ; 0.75,-0.65 1.45,-0.65 1.45,-0.35 0.75,-0.35 ; 0.75,1.35 1.45,1.35 1.45,1.65 0.75,1.65 ; 0.75,3.35 1.45,3.35 1.45,3.65 0.75,3.65 ; 0.75,5.35 1.45,5.35 1.45,5.65 0.75,5.65 ; 0.75,7.35 1.45,7.35 1.45,7.65 0.75,7.65 ; 0.75,9.35 1.45,9.35 1.45,9.65 0.75,9.65 ; -0.75,-11.25 0.75,-11.25 0.75,11.25 -0.375,11.25 -0.75,10.875 -0.75,-11.25
  text "'.Designator'" at 0.761,-3.647 h0.9
Top Courtyard:
  lines w0.254: -2.45,-11.75 2.45,-11.75 2.45,11.75 -2.45,11.75 -2.45,-11.75
Top Designator:
  text ".Designator" at -7.618,-0.508 h1.52

## PinSocket_1x22_P1.00mm_Vertical_SMD_Pin1Right [mm]
pads (22):
  rect 1.95x0.5 smd: 1(0.975,10.5) 2(-0.975,9.5) 3(0.975,8.5) 4(-0.975,7.5) 5(0.975,6.5) 6(-0.975,5.5) 7(0.975,4.5) 8(-0.975,3.5) 9(0.975,2.5) 10(-0.975,1.5) 11(0.975,0.5) 12(-0.975,-0.5) 13(0.975,-1.5) 14(-0.975,-2.5) 15(0.975,-3.5) 16(-0.975,-4.5) 17(0.975,-5.5) 18(-0.975,-6.5) 19(0.975,-7.5) 20(-0.975,-8.5) 21(0.975,-9.5) 22(-0.975,-10.5)
F.SilkS:
  lines w0.254: -0.81,-11.01 -0.81,-11.31 0.81,-11.31 0.81,-10.01 ; -0.81,-9.99 -0.81,-9.01 ; -0.81,-7.99 -0.81,-7.01 ; -0.81,-5.99 -0.81,-5.01 ; -0.81,-3.99 -0.81,-3.01 ; -0.81,-1.99 -0.81,-1.01 ; -0.81,0.01 -0.81,0.99 ; -0.81,2.01 -0.81,2.99 ; -0.81,4.01 -0.81,4.99 ; -0.81,6.01 -0.81,6.99 ; -0.81,8.01 -0.81,8.99 ; -0.81,10.01 -0.81,11.31 0.81,11.31 0.81,11.01 1.89,11.01 ; 0.81,-8.99 0.81,-8.01 ; 0.81,-6.99 0.81,-6.01 ; 0.81,-4.99 0.81,-4.01 ; 0.81,-2.99 0.81,-2.01 ; 0.81,-0.99 0.81,-0.01 ; 0.81,1.01 0.81,1.99 ; 0.81,3.01 0.81,3.99 ; 0.81,5.01 0.81,5.99 ; 0.81,7.01 0.81,7.99 ; 0.81,9.01 0.81,9.99
Top Assembly:
  lines w0.254: -0.75,-10.65 -1.45,-10.65 -1.45,-10.35 -0.75,-10.35 ; -0.75,-8.65 -1.45,-8.65 -1.45,-8.35 -0.75,-8.35 ; -0.75,-6.65 -1.45,-6.65 -1.45,-6.35 -0.75,-6.35 ; -0.75,-4.65 -1.45,-4.65 -1.45,-4.35 -0.75,-4.35 ; -0.75,-2.65 -1.45,-2.65 -1.45,-2.35 -0.75,-2.35 ; -0.75,-0.65 -1.45,-0.65 -1.45,-0.35 -0.75,-0.35 ; -0.75,1.35 -1.45,1.35 -1.45,1.65 -0.75,1.65 ; -0.75,3.35 -1.45,3.35 -1.45,3.65 -0.75,3.65 ; -0.75,5.35 -1.45,5.35 -1.45,5.65 -0.75,5.65 ; -0.75,7.35 -1.45,7.35 -1.45,7.65 -0.75,7.65 ; -0.75,9.35 -1.45,9.35 -1.45,9.65 -0.75,9.65 ; 0.75,-9.65 1.45,-9.65 1.45,-9.35 0.75,-9.35 ; 0.75,-7.65 1.45,-7.65 1.45,-7.35 0.75,-7.35 ; 0.75,-5.65 1.45,-5.65 1.45,-5.35 0.75,-5.35 ; 0.75,-3.65 1.45,-3.65 1.45,-3.35 0.75,-3.35 ; 0.75,-1.65 1.45,-1.65 1.45,-1.35 0.75,-1.35 ; 0.75,0.35 1.45,0.35 1.45,0.65 0.75,0.65 ; 0.75,2.35 1.45,2.35 1.45,2.65 0.75,2.65 ; 0.75,4.35 1.45,4.35 1.45,4.65 0.75,4.65 ; 0.75,6.35 1.45,6.35 1.45,6.65 0.75,6.65 ; 0.75,8.35 1.45,8.35 1.45,8.65 0.75,8.65 ; 0.75,10.35 1.45,10.35 1.45,10.65 0.75,10.65 ; -0.75,-11.25 0.75,-11.25 0.75,10.875 0.375,11.25 -0.75,11.25 -0.75,-11.25
  text "'.Designator'" at 0.761,-3.647 h0.9
Top Courtyard:
  lines w0.254: -2.45,-11.75 2.45,-11.75 2.45,11.75 -2.45,11.75 -2.45,-11.75
Top Designator:
  text ".Designator" at -7.618,-0.508 h1.52

## PinSocket_1x23_P1.00mm_Vertical [mm]
pads (23):
  rect 0.85x0.85 hole 0.5: 1(0,0)
  round 0.85 hole 0.5: 2(0,-1) 3(0,-2) 4(0,-3) 5(0,-4) 6(0,-5) 7(0,-6) 8(0,-7) 9(0,-8) 10(0,-9) 11(0,-10) 12(0,-11) 13(0,-12) 14(0,-13) 15(0,-14) 16(0,-15) 17(0,-16) 18(0,-17) 19(0,-18) 20(0,-19) 21(0,-20) 22(0,-21) 23(0,-22)
F.SilkS:
  lines w0.254: -0.685,-0.5 -1.1,-0.5 -1.1,-22.81 0.52,-22.81 0.52,-22.446 ; 0,0.81 0.685,0.81 0.685,0 ; 0.52,-21.554 0.52,-21.446 ; 0.52,-20.554 0.52,-20.446 ; 0.52,-19.554 0.52,-19.446 ; 0.52,-18.554 0.52,-18.446 ; 0.52,-17.554 0.52,-17.446 ; 0.52,-16.554 0.52,-16.446 ; 0.52,-15.554 0.52,-15.446 ; 0.52,-14.554 0.52,-14.446 ; 0.52,-13.554 0.52,-13.446 ; 0.52,-12.554 0.52,-12.446 ; 0.52,-11.554 0.52,-11.446 ; 0.52,-10.554 0.52,-10.446 ; 0.52,-9.554 0.52,-9.446 ; 0.52,-8.554 0.52,-8.446 ; 0.52,-7.554 0.52,-7.446 ; 0.52,-6.554 0.52,-6.446 ; 0.52,-5.554 0.52,-5.446 ; 0.52,-4.554 0.52,-4.446 ; 0.52,-3.554 0.52,-3.446 ; 0.52,-2.554 0.52,-2.446 ; 0.52,-1.554 0.52,-1.446
Top Assembly:
  lines w0.254: -1.04,-22.75 0.46,-22.75 0.46,0.375 0.085,0.75 -1.04,0.75 -1.04,-22.75
  text "'.Designator'" at 0.471,-14.647 h0.9
Top Courtyard:
  lines w0.254: -1.54,-23.25 0.96,-23.25 0.96,1.25 -1.54,1.25 -1.54,-23.25
Top Designator:
  text ".Designator" at -7.908,-11.508 h1.52